# Altium footprint library PcbLib_ADH.PcbLib: 136 footprints (part 4 of 9)
Each footprint in its own frame and in the unit in brackets; x right, y up, seen from the top. Pads: shape width x height; smd on the part's side, far side on the other; paste and mask are expansions set on the pad; w line width, h text height; cw(c..) or ccw(c..) is an arc to the next point about the centre after c.
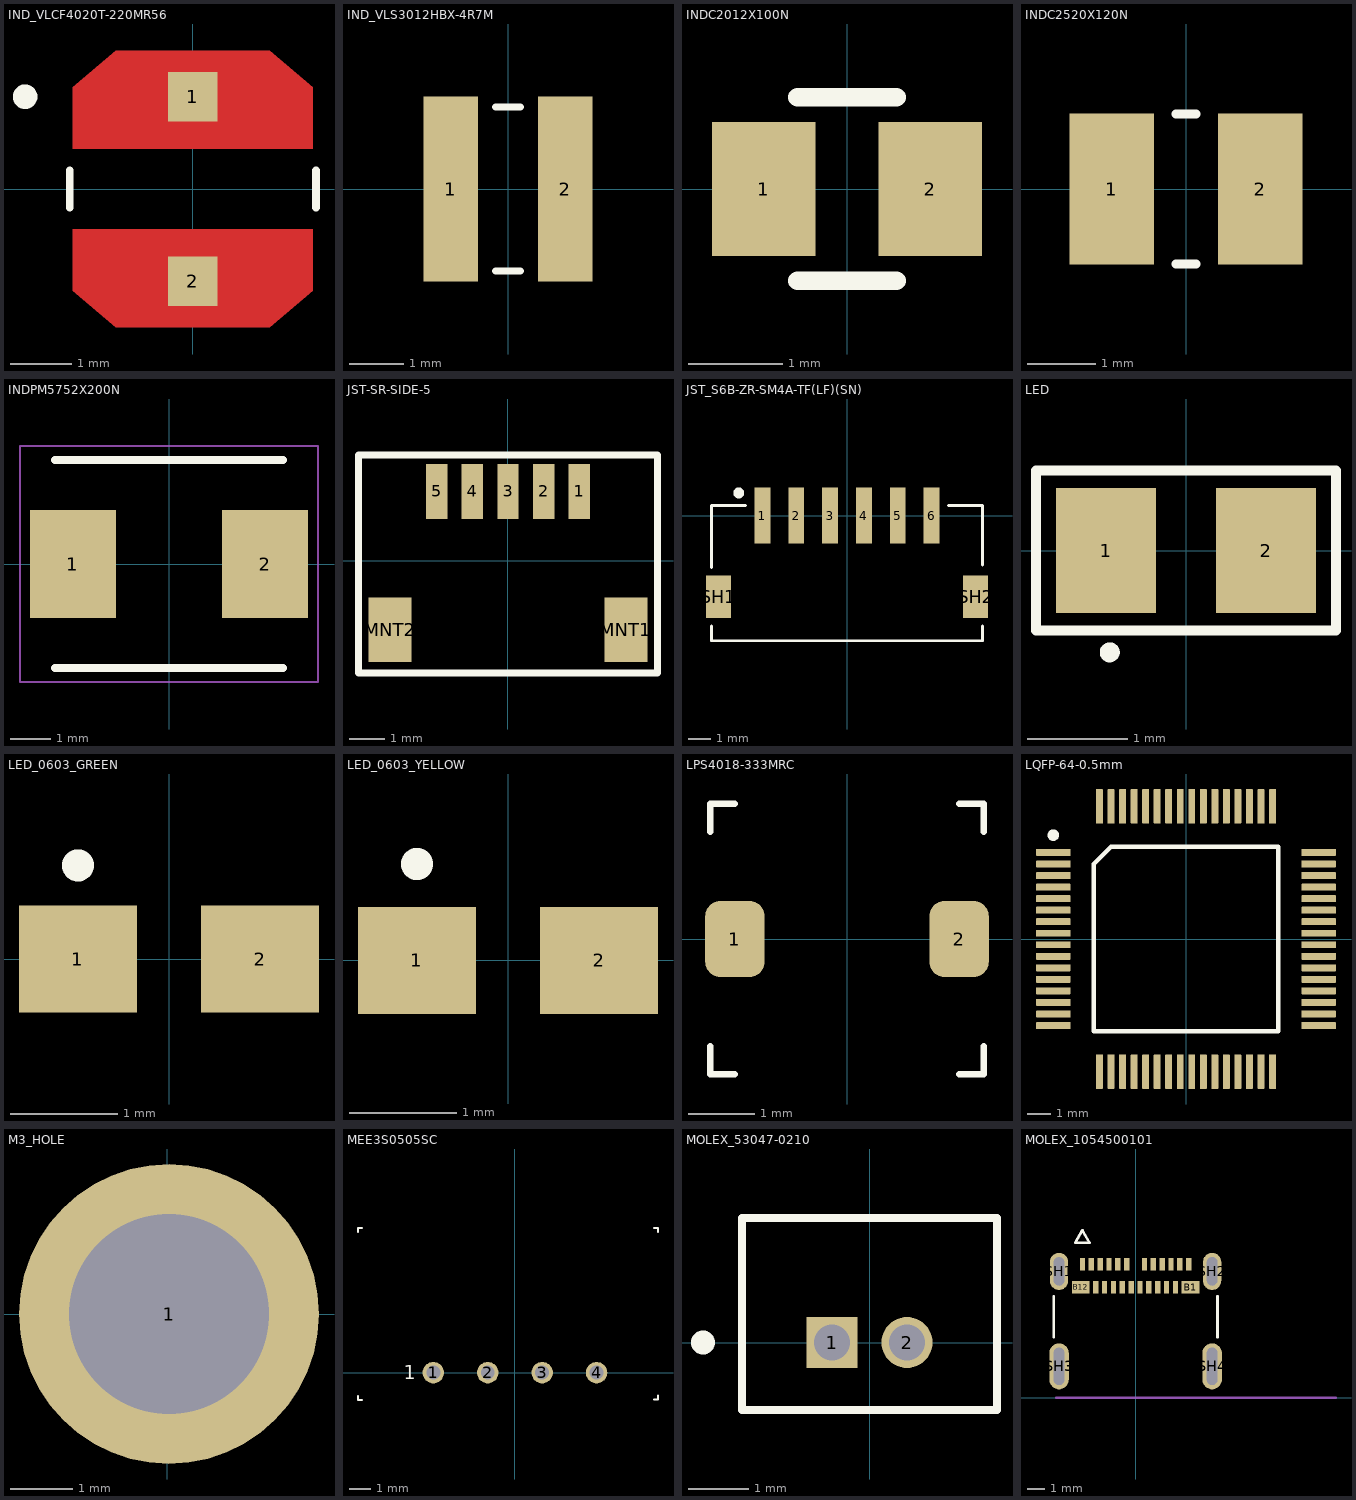
[diagram p3: the footprints below, top view; thin cyan lines are the x and y axes]

## IND_VLCF4020T-220MR56 [mm]
height 2
pads (2):
  rect 0.8x0.8 smd paste-1 mask+0: 1(0,1.5) 2(0,-1.5)
Top Layer:
  region: 1.95,1.65 1.95,0.65 -1.95,0.65 -1.95,1.65 -1.25,2.25 1.25,2.25
  region: 1.95,-1.65 1.25,-2.25 -1.25,-2.25 -1.95,-1.65 -1.95,-0.65 1.95,-0.65
Top Overlay:
  circle w0.2: c-2.725,1.5 r0.1
  lines w0.127: -2,-0.3 -2,0.3 ; 2,-0.3 2,0.3
Top Paste:
  region: 1.95,1.65 1.95,0.65 -1.95,0.65 -1.95,1.65 -1.25,2.25 1.25,2.25
  region: 1.95,-1.65 1.25,-2.25 -1.25,-2.25 -1.95,-1.65 -1.95,-0.65 1.95,-0.65
Top Solder:
  region: 2.05,1.7 2.05,0.55 -2.05,0.55 -2.05,1.7 -1.3,2.35 1.3,2.35
  region: 2.05,-1.7 1.3,-2.35 -1.3,-2.35 -2.05,-1.7 -2.05,-0.55 2.05,-0.55
3D body "step_temp.STEP": height 2, standoff 0, extent -2.025,-1.975 1.975,2.025

## IND_VLS3012HBX-4R7M [mm]
height 1.2
pads (2):
  rect 1x3.4 smd: 1(-1.05,0) 2(1.05,0)
Top Overlay:
  lines w0.127: -0.23,-1.5 0.23,-1.5 ; -0.23,1.5 0.23,1.5
3D body "VLS3012HBX-4R7M.stp": height 1.2, standoff 0, extent -1.502,-1.509 1.502,1.509

## INDC2012X100N [mm]
pads (2):
  rect 1.1x1.42 smd: 1(-0.885,0) 2(0.885,0)
Top Overlay:
  lines w0.2: -0.525,-0.975 0.05,-0.975 0.525,-0.975 ; -0.525,0.975 -0.05,0.975 0.525,0.975
3D body "LQM21PZ4R7MGRD.STEP": height 1, standoff 0, extent -1,-0.625 1,0.625

## INDC2520X120N [mm]
pads (2):
  rect 1.24x2.22 smd: 1(-1.09,0) 2(1.09,0)
Top Overlay:
  lines w0.127: -0.15,-1.1 0.15,-1.1 ; -0.15,1.1 0.15,1.1
3D body "DFE252012F-100M=P2.STEP": height 1.19, standoff -0.01, extent -1.25,-1 1.25,1

## INDPM5752X200N [mm]
pads (2):
  rect 2.15x2.7 smd: 1(-2.4,0) 2(2.4,0)
Top Overlay:
  lines w0.2: -2.85,-2.6 2.85,-2.6 ; -2.85,2.6 2.85,2.6
Mechanical 20:
  lines w0.05: -3.725,-2.95 -3.725,2.95 3.725,2.95 3.725,-2.95 -3.725,-2.95
3D body "IND_WE-LHMI_5020_WRE.step": height 2.01, standoff 0, extent -2.997,-2.705 2.997,2.705

## JST-SR-SIDE-5 [mm]
pads (7):
  rect 0.6x1.55 smd: 1(2,1.938) 2(1,1.938) 3(0,1.938) 4(-1,1.938) 5(-2,1.938)
  rect 1.2x1.8 smd: MNT1(3.3,-1.937) MNT2(-3.3,-1.937)
Top Overlay:
  lines w0.2: -4.191,-3.142 -4.191,2.954 -3.683,2.954 -1.905,2.954 4.191,2.954 4.191,-3.142 -4.191,-3.142
3D body "step_temp.STEP": height 2.95, standoff 0, extent -3.5,-2.631 3.5,2.319

## JST_S6B-ZR-SM4A-TF(LF)(SN) [mm]
pads (8):
  rect 0.7x2.5 smd: 1(-3.75,0) 2(-2.25,0) 3(-0.75,0) 4(0.75,0) 5(2.25,0) 6(3.75,0)
  rect 1.1x1.9 smd: SH1(-5.7,-3.6) SH2(5.7,-3.6)
Top Overlay:
  circle w0.24: c-4.8,1 r0.12
  lines w0.127: -6,-5.55 6,-5.55 ; -6,-5.5 -6,-4.9 ; -6,-2.3 -6,0.4 ; -6,0.45 -4.5,0.45 ; 4.5,0.45 6,0.45 ; 6,-5.5 6,-4.9 ; 6,-2.2 6,0.4
3D body "step_temp.STEP": height 3.7, standoff 0, extent -6,-6 6,0.5

## LED [mm]
pads (2):
  rect 1x1.25 smd: 1(-0.8,0) 2(0.8,0)
Top Overlay:
  circle w0.1: c-0.762,-1.016 r0.05
  lines w0.1: -1.5,-0.8 0,-0.8 1.5,-0.8 1.5,0.8 0,0.8 -1.5,0.8 -1.5,-0.8
3D body "everlight-17-21-0805LED-GREEN.STEP": height 1.11, standoff 0, extent -1,-0.625 1,0.625

## LED_0603_GREEN [mm]
pads (2):
  rect 1.1x1 smd: 1(-0.85,0) 2(0.85,0)
Top Overlay:
  circle w0.2: c-0.85,0.875 r0.05
3D body "User Library-LED_0603_G.STEP": height 0.6, standoff 0, extent -0.8,-0.4 0.8,0.4

## LED_0603_YELLOW [mm]
pads (2):
  rect 1.1x1 smd: 1(-0.85,0) 2(0.85,0)
Top Overlay:
  circle w0.2: c-0.85,0.9 r0.05
3D body "User Library-LED_0603_Y.STEP": height 0.6, standoff 0, extent -0.8,-0.4 0.8,0.4

## LPS4018-333MRC [mm]
pads (2):
  rrect50% 0.9x1.15 smd: 1(-1.7,0) 2(1.7,0)
Top Overlay:
  lines w0.1: -2.075,-1.625 -2.075,-2.05 -1.7,-2.05 ; -2.075,1.625 -2.075,2.05 -1.7,2.05 ; 1.7,-2.05 2.075,-2.05 2.075,-1.625 ; 1.7,2.05 2.075,2.05 2.075,1.625
3D body "LPS4018-333MRC.stp": height 1.73, standoff 0, extent -1.95,-1.975 1.95,1.925

## LQFP-64-0.5mm [mm] "TSQFP, 64-Leads, Body 10.00x10.00mm, Pitch 0.50mm, IPC Medium Density"
height 1.6
pads (64):
  rrect25% 1.5x0.3 smd mask+0.05: 1(-5.75,3.75) 2(-5.75,3.25) 3(-5.75,2.75) 4(-5.75,2.25) 5(-5.75,1.75) 6(-5.75,1.25) 7(-5.75,0.75) 8(-5.75,0.25) 9(-5.75,-0.25) 10(-5.75,-0.75) 11(-5.75,-1.25) 12(-5.75,-1.75) 13(-5.75,-2.25) 14(-5.75,-2.75) 15(-5.75,-3.25) 16(-5.75,-3.75) 33(5.75,-3.75) 34(5.75,-3.25) 35(5.75,-2.75) 36(5.75,-2.25) 37(5.75,-1.75) 38(5.75,-1.25) 39(5.75,-0.75) 40(5.75,-0.25) 41(5.75,0.25) 42(5.75,0.75) 43(5.75,1.25) 44(5.75,1.75) 45(5.75,2.25) 46(5.75,2.75) 47(5.75,3.25) 48(5.75,3.75)
  rrect25% 0.3x1.5 smd mask+0.05: 17(-3.75,-5.75) 18(-3.25,-5.75) 19(-2.75,-5.75) 20(-2.25,-5.75) 21(-1.75,-5.75) 22(-1.25,-5.75) 23(-0.75,-5.75) 24(-0.25,-5.75) 25(0.25,-5.75) 26(0.75,-5.75) 27(1.25,-5.75) 28(1.75,-5.75) 29(2.25,-5.75) 30(2.75,-5.75) 31(3.25,-5.75) 32(3.75,-5.75) 49(3.75,5.75) 50(3.25,5.75) 51(2.75,5.75) 52(2.25,5.75) 53(1.75,5.75) 54(1.25,5.75) 55(0.75,5.75) 56(0.25,5.75) 57(-0.25,5.75) 58(-0.75,5.75) 59(-1.25,5.75) 60(-1.75,5.75) 61(-2.25,5.75) 62(-2.75,5.75) 63(-3.25,5.75) 64(-3.75,5.75)
Top Overlay:
  circle w0.25: c-5.75,4.5 r0.125
  lines w0.2: -4,-4 4,-4 4,4 -3.25,4 -4,3.25 -4,-4
3D body "LQFP-64-0.5mm.step": height 1.6, standoff 0, extent -6,-6 6,6

## M3_HOLE [mm]
pads (1):
  round 4.8 hole 3.2: 1(0.025,0)

## MEE3S0505SC [mm]
pads (4):
  round 1 hole 0.65: 1(-3.81,0) 2(-1.27,0) 3(1.27,0) 4(3.81,0)
Top Overlay:
  lines w0.1: -7.325,-1.1 -7.325,-1.275 -7.15,-1.275 ; -7.325,6.575 -7.325,6.75 -7.15,6.75 ; 6.5,-1.25 6.675,-1.25 6.675,-1.075 ; 6.5,6.75 6.675,6.75 6.675,6.575
  text "1" at -5.2,-0.3 h0.65
3D body "mps_dcdc_mee3s_sc_a.step": height 10.1, standoff -4, extent -7.33,-1.27 6.67,6.75

## MOLEX_53047-0210 [mm]
pads (2):
  rect 0.85x0.85 / inner round 0.85 / far side rect 0.85x0.85 hole 0.6: 1(-0.625,0)
  round 0.85 hole 0.6: 2(0.625,0)
Top Overlay:
  circle w0.2: c-2.775,0 r0.1
  lines w0.127: -2.125,-1.125 2.125,-1.125 2.125,2.075 -2.125,2.075 -2.125,-1.125
3D body "0530470210--3DModel-STEP-231308.STEP": height 4.21, standoff -2.29, extent -2.125,-1.125 2.125,2.075

## MOLEX_1054500101 [mm]
height 3.24
pads (28):
  rect 0.298x0.7 smd mask+0.064: A1(-3,7.54) A2(-2.5,7.54) A3(-2,7.54) A4(-1.5,7.54) A5(-1,7.54) A6(-0.5,7.54) A7(0.5,7.54) A8(1,7.54) A9(1.5,7.54) A10(2,7.54) A11(2.5,7.54) A12(3,7.54) B2(2.25,6.24) B3(1.75,6.24) B4(1.25,6.24) B5(0.75,6.24) B6(0.25,6.24) B7(-0.25,6.24) B8(-0.75,6.24) B9(-1.25,6.24) B10(-1.75,6.24) B11(-2.25,6.24)
  rect 0.998x0.7 smd mask+0.064: B1(3.1,6.24) B12(-3.1,6.24)
  oval 1.036x2.1 hole 0.6 slot 1.6 at 90 deg mask+0.064: SH1(-4.32,7.13) SH2(4.32,7.13)
  oval 1.1x2.6 hole 0.6 slot 2.1 at 90 deg mask+0.064: SH3(-4.32,1.77) SH4(4.32,1.77)
Top Overlay:
  lines w0.15: -4.62,3.42 -4.62,5.72 ; 4.62,3.42 4.62,5.72 ; -3.4,8.748 -3,9.448 -2.6,8.748 -3.4,8.748
Mechanical 2:
  text "'.Designator'" at 0,4.484 h0.7
Mechanical 13:
  lines w0.13: -4.47,0 4.47,0 11.31,0
  text "PCB Edge" at 5.4,0.27 h1
3D body "1054500101--3DModel-STEP-1.STEP": height 3.21, standoff -0.89, extent -4.495,-0.03 4.445,7.87